# Altium footprint library Inductor_THT.PcbLib: 269 footprints (part 3 of 17)
Each footprint in its own frame and in the unit in brackets; x right, y up, seen from the top. Pads: shape width x height; smd on the part's side, far side on the other; paste and mask are expansions set on the pad; w line width, h text height; cw(c..) or ccw(c..) is an arc to the next point about the centre after c.
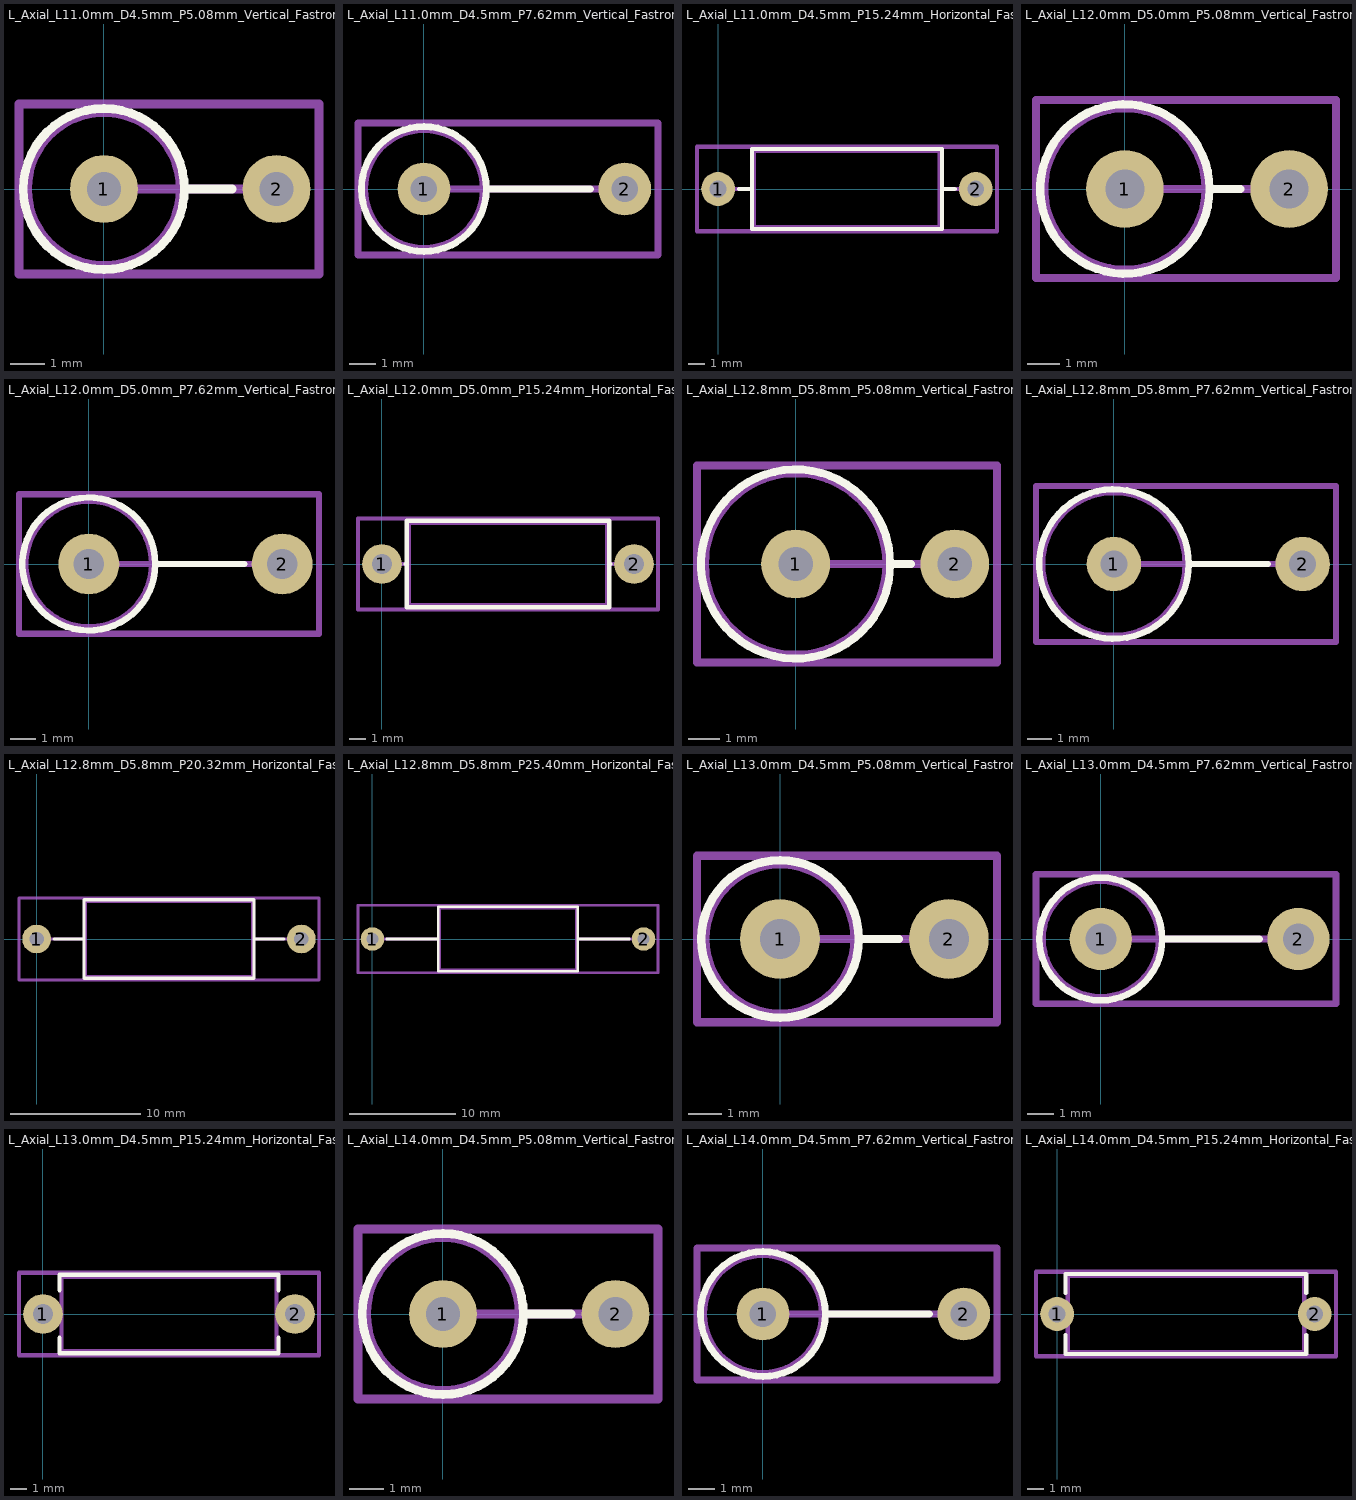
[diagram p2: the footprints below, top view; thin cyan lines are the x and y axes]

## L_Axial_L11.0mm_D4.5mm_P5.08mm_Vertical_Fastron_MECC [mm]
pads (2):
  round 2 hole 1: 1(0,0) 2(5.08,0)
F.SilkS:
  circle w0.254: c0,0 r2.37
  lines w0.254: 2.37,0 3.78,0
Top Assembly:
  circle w0.254: c0,0 r2.25
  lines w0.254: 0,0 5.08,0
  text "'.Designator'" at -1.507,2.53 h1
Top Courtyard:
  lines w0.254: -2.5,-2.5 6.33,-2.5 6.33,2.5 -2.5,2.5 -2.5,-2.5
Top Designator:
  text ".Designator" at -5.703,0.042 h1.52
3D body "L_Axial_L11.0mm_D4.5mm_P5.08mm_Vertical_Fastron_MECC.step": height 13.55, standoff -3, extent -2.25,-2.247 5.427,2.247

## L_Axial_L11.0mm_D4.5mm_P7.62mm_Vertical_Fastron_MECC [mm]
pads (2):
  round 2 hole 1: 1(0,0) 2(7.62,0)
F.SilkS:
  circle w0.254: c0,0 r2.37
  lines w0.254: 2.37,0 6.32,0
Top Assembly:
  circle w0.254: c0,0 r2.25
  lines w0.254: 0,0 7.62,0
  text "'.Designator'" at -0.237,2.53 h1
Top Courtyard:
  lines w0.254: -2.5,-2.5 8.88,-2.5 8.88,2.5 -2.5,2.5 -2.5,-2.5
Top Designator:
  text ".Designator" at -4.428,0.042 h1.52
3D body "L_Axial_L11.0mm_D4.5mm_P7.62mm_Vertical_Fastron_MECC.step": height 13.55, standoff -3, extent -2.25,-2.247 7.967,2.247

## L_Axial_L11.0mm_D4.5mm_P15.24mm_Horizontal_Fastron_MECC [mm]
pads (2):
  round 2 hole 1: 1(0,0) 2(15.24,0)
F.SilkS:
  lines w0.254: 1.24,0 2,0 ; 13.24,0 14,0 ; 2,-2.37 13.24,-2.37 13.24,2.37 2,2.37 2,-2.37
Top Assembly:
  lines w0.254: 0,0 2.12,0 ; 13.12,0 15.24,0 ; 2.12,-2.25 13.12,-2.25 13.12,2.25 2.12,2.25 2.12,-2.25
  text "'.Designator'" at 3.573,-0.84 h1
Top Courtyard:
  lines w0.254: -1.25,-2.5 16.5,-2.5 16.5,2.5 -1.25,2.5 -1.25,-2.5
Top Designator:
  text ".Designator" at 0.007,-0.508 h1.52
3D body "L_Axial_L11.0mm_D4.5mm_P15.24mm_Horizontal_Fastron_MECC.step": height 4.6, standoff -3, extent -0.347,-2.247 15.587,2.247

## L_Axial_L12.0mm_D5.0mm_P5.08mm_Vertical_Fastron_MISC [mm]
pads (2):
  round 2.4 hole 1.2: 1(0,0) 2(5.08,0)
F.SilkS:
  circle w0.254: c0,0 r2.62
  lines w0.254: 2.62,0 3.58,0
Top Assembly:
  circle w0.254: c0,0 r2.5
  lines w0.254: 0,0 5.08,0
  text "'.Designator'" at -1.507,2.78 h1
Top Courtyard:
  lines w0.254: -2.75,-2.75 6.53,-2.75 6.53,2.75 -2.75,2.75 -2.75,-2.75
Top Designator:
  text ".Designator" at -5.728,0.042 h1.52
3D body "L_Axial_L12.0mm_D5.0mm_P5.08mm_Vertical_Fastron_MISC.step": height 15.25, standoff -3, extent -2.5,-2.497 5.526,2.497

## L_Axial_L12.0mm_D5.0mm_P7.62mm_Vertical_Fastron_MISC [mm]
pads (2):
  round 2.4 hole 1.2: 1(0,0) 2(7.62,0)
F.SilkS:
  circle w0.254: c0,0 r2.62
  lines w0.254: 2.62,0 6.12,0
Top Assembly:
  circle w0.254: c0,0 r2.5
  lines w0.254: 0,0 7.62,0
  text "'.Designator'" at -0.237,2.78 h1
Top Courtyard:
  lines w0.254: -2.75,-2.75 9.07,-2.75 9.07,2.75 -2.75,2.75 -2.75,-2.75
Top Designator:
  text ".Designator" at -4.458,0.042 h1.52
3D body "L_Axial_L12.0mm_D5.0mm_P7.62mm_Vertical_Fastron_MISC.step": height 15.25, standoff -3, extent -2.5,-2.497 8.066,2.497

## L_Axial_L12.0mm_D5.0mm_P15.24mm_Horizontal_Fastron_MISC [mm]
pads (2):
  round 2.4 hole 1.2: 1(0,0) 2(15.24,0)
F.SilkS:
  lines w0.254: 1.44,0 1.5,0 ; 13.74,0 13.8,0 ; 1.5,-2.62 13.74,-2.62 13.74,2.62 1.5,2.62 1.5,-2.62
Top Assembly:
  lines w0.254: 0,0 1.62,0 ; 13.62,0 15.24,0 ; 1.62,-2.5 13.62,-2.5 13.62,2.5 1.62,2.5 1.62,-2.5
  text "'.Designator'" at 3.573,-0.84 h1
Top Courtyard:
  lines w0.254: -1.45,-2.75 16.69,-2.75 16.69,2.75 -1.45,2.75 -1.45,-2.75
Top Designator:
  text ".Designator" at 0.002,-0.508 h1.52
3D body "L_Axial_L12.0mm_D5.0mm_P15.24mm_Horizontal_Fastron_MISC.step": height 5.1, standoff -3, extent -0.446,-2.497 15.686,2.497

## L_Axial_L12.8mm_D5.8mm_P5.08mm_Vertical_Fastron_HBCC [mm]
pads (2):
  round 2.2 hole 1.1: 1(0,0) 2(5.08,0)
F.SilkS:
  circle w0.254: c0,0 r3.02
  lines w0.254: 3.02,0 3.68,0
Top Assembly:
  circle w0.254: c0,0 r2.9
  lines w0.254: 0,0 5.08,0
  text "'.Designator'" at -4.047,0.76 h1
Top Courtyard:
  lines w0.254: -3.15,-3.15 6.43,-3.15 6.43,3.15 -3.15,3.15 -3.15,-3.15
Top Designator:
  text ".Designator" at -6.437,-0.508 h1.52
3D body "L_Axial_L12.8mm_D5.8mm_P5.08mm_Vertical_Fastron_HBCC.step": height 15.7, standoff -3, extent -2.9,-2.897 5.477,2.897

## L_Axial_L12.8mm_D5.8mm_P7.62mm_Vertical_Fastron_HBCC [mm]
pads (2):
  round 2.2 hole 1.1: 1(0,0) 2(7.62,0)
F.SilkS:
  circle w0.254: c0,0 r3.02
  lines w0.254: 3.02,0 6.22,0
Top Assembly:
  circle w0.254: c0,0 r2.9
  lines w0.254: 0,0 7.62,0
  text "'.Designator'" at -4.047,0.76 h1
Top Courtyard:
  lines w0.254: -3.15,-3.15 8.97,-3.15 8.97,3.15 -3.15,3.15 -3.15,-3.15
Top Designator:
  text ".Designator" at -5.167,-0.508 h1.52
3D body "L_Axial_L12.8mm_D5.8mm_P7.62mm_Vertical_Fastron_HBCC.step": height 15.7, standoff -3, extent -2.9,-2.897 8.017,2.897

## L_Axial_L12.8mm_D5.8mm_P20.32mm_Horizontal_Fastron_HBCC [mm]
pads (2):
  round 2.2 hole 1.1: 1(0,0) 2(20.32,0)
F.SilkS:
  lines w0.254: 1.34,0 3.64,0 ; 16.68,0 18.98,0 ; 3.64,-3.02 16.68,-3.02 16.68,3.02 3.64,3.02 3.64,-3.02
Top Assembly:
  lines w0.254: 0,0 3.76,0 ; 16.56,0 20.32,0 ; 3.76,-2.9 16.56,-2.9 16.56,2.9 3.76,2.9 3.76,-2.9
  text "'.Designator'" at 6.113,-0.84 h1
Top Courtyard:
  lines w0.254: -1.35,-3.15 21.67,-3.15 21.67,3.15 -1.35,3.15 -1.35,-3.15
Top Designator:
  text ".Designator" at 2.542,-0.508 h1.52
3D body "L_Axial_L12.8mm_D5.8mm_P20.32mm_Horizontal_Fastron_HBCC.step": height 5.9, standoff -3, extent -0.397,-2.897 20.717,2.897

## L_Axial_L12.8mm_D5.8mm_P25.40mm_Horizontal_Fastron_HBCC [mm]
pads (2):
  round 2.2 hole 1.1: 1(0,0) 2(25.4,0)
F.SilkS:
  lines w0.254: 1.34,0 6.18,0 ; 19.22,0 24.06,0 ; 6.18,-3.02 19.22,-3.02 19.22,3.02 6.18,3.02 6.18,-3.02
Top Assembly:
  lines w0.254: 0,0 6.3,0 ; 19.1,0 25.4,0 ; 6.3,-2.9 19.1,-2.9 19.1,2.9 6.3,2.9 6.3,-2.9
  text "'.Designator'" at 8.653,-0.84 h1
Top Courtyard:
  lines w0.254: -1.35,-3.15 26.75,-3.15 26.75,3.15 -1.35,3.15 -1.35,-3.15
Top Designator:
  text ".Designator" at 5.082,-0.508 h1.52
3D body "L_Axial_L12.8mm_D5.8mm_P25.40mm_Horizontal_Fastron_HBCC.step": height 5.9, standoff -3, extent -0.397,-2.9 25.797,2.9

## L_Axial_L13.0mm_D4.5mm_P5.08mm_Vertical_Fastron_HCCC [mm]
pads (2):
  round 2.4 hole 1.2: 1(0,0) 2(5.08,0)
F.SilkS:
  circle w0.254: c0,0 r2.37
  lines w0.254: 2.37,0 3.58,0
Top Assembly:
  circle w0.254: c0,0 r2.25
  lines w0.254: 0,0 5.08,0
  text "'.Designator'" at -1.507,2.53 h1
Top Courtyard:
  lines w0.254: -2.5,-2.5 6.53,-2.5 6.53,2.5 -2.5,2.5 -2.5,-2.5
Top Designator:
  text ".Designator" at -5.603,0.042 h1.52
3D body "L_Axial_L13.0mm_D4.5mm_P5.08mm_Vertical_Fastron_HCCC.step": height 16.25, standoff -3, extent -2.25,-2.247 5.526,2.247

## L_Axial_L13.0mm_D4.5mm_P7.62mm_Vertical_Fastron_HCCC [mm]
pads (2):
  round 2.4 hole 1.2: 1(0,0) 2(7.62,0)
F.SilkS:
  circle w0.254: c0,0 r2.37
  lines w0.254: 2.37,0 6.12,0
Top Assembly:
  circle w0.254: c0,0 r2.25
  lines w0.254: 0,0 7.62,0
  text "'.Designator'" at -0.237,2.53 h1
Top Courtyard:
  lines w0.254: -2.5,-2.5 9.07,-2.5 9.07,2.5 -2.5,2.5 -2.5,-2.5
Top Designator:
  text ".Designator" at -4.333,0.042 h1.52
3D body "L_Axial_L13.0mm_D4.5mm_P7.62mm_Vertical_Fastron_HCCC.step": height 16.25, standoff -3, extent -2.25,-2.247 8.066,2.247

## L_Axial_L13.0mm_D4.5mm_P15.24mm_Horizontal_Fastron_HCCC [mm]
pads (2):
  round 2.4 hole 1.2: 1(0,0) 2(15.24,0)
F.SilkS:
  lines w0.254: 1,-1.44 1,-2.37 14.24,-2.37 14.24,-1.44 ; 1,1.44 1,2.37 14.24,2.37 14.24,1.44
Top Assembly:
  lines w0.254: 0,0 1.12,0 ; 14.12,0 15.24,0 ; 1.12,-2.25 14.12,-2.25 14.12,2.25 1.12,2.25 1.12,-2.25
  text "'.Designator'" at 3.573,-0.84 h1
Top Courtyard:
  lines w0.254: -1.45,-2.5 16.69,-2.5 16.69,2.5 -1.45,2.5 -1.45,-2.5
Top Designator:
  text ".Designator" at 0.002,-0.508 h1.52
3D body "L_Axial_L13.0mm_D4.5mm_P15.24mm_Horizontal_Fastron_HCCC.step": height 4.6, standoff -3, extent -0.446,-2.247 15.686,2.247

## L_Axial_L14.0mm_D4.5mm_P5.08mm_Vertical_Fastron_LACC [mm]
pads (2):
  round 2 hole 1: 1(0,0) 2(5.08,0)
F.SilkS:
  circle w0.254: c0,0 r2.37
  lines w0.254: 2.37,0 3.78,0
Top Assembly:
  circle w0.254: c0,0 r2.25
  lines w0.254: 0,0 5.08,0
  text "'.Designator'" at -1.507,2.53 h1
Top Courtyard:
  lines w0.254: -2.5,-2.5 6.33,-2.5 6.33,2.5 -2.5,2.5 -2.5,-2.5
Top Designator:
  text ".Designator" at -5.703,0.042 h1.52
3D body "L_Axial_L14.0mm_D4.5mm_P5.08mm_Vertical_Fastron_LACC.step": height 16.55, standoff -3, extent -2.25,-2.247 5.427,2.247

## L_Axial_L14.0mm_D4.5mm_P7.62mm_Vertical_Fastron_LACC [mm]
pads (2):
  round 2 hole 1: 1(0,0) 2(7.62,0)
F.SilkS:
  circle w0.254: c0,0 r2.37
  lines w0.254: 2.37,0 6.32,0
Top Assembly:
  circle w0.254: c0,0 r2.25
  lines w0.254: 0,0 7.62,0
  text "'.Designator'" at -0.237,2.53 h1
Top Courtyard:
  lines w0.254: -2.5,-2.5 8.88,-2.5 8.88,2.5 -2.5,2.5 -2.5,-2.5
Top Designator:
  text ".Designator" at -4.428,0.042 h1.52
3D body "L_Axial_L14.0mm_D4.5mm_P7.62mm_Vertical_Fastron_LACC.step": height 16.55, standoff -3, extent -2.25,-2.247 7.967,2.247

## L_Axial_L14.0mm_D4.5mm_P15.24mm_Horizontal_Fastron_LACC [mm]
pads (2):
  round 2 hole 1: 1(0,0) 2(15.24,0)
F.SilkS:
  lines w0.254: 0.5,-1.24 0.5,-2.37 14.74,-2.37 14.74,-1.24 ; 0.5,1.24 0.5,2.37 14.74,2.37 14.74,1.24
Top Assembly:
  lines w0.254: 0,0 0.62,0 ; 14.62,0 15.24,0 ; 0.62,-2.25 14.62,-2.25 14.62,2.25 0.62,2.25 0.62,-2.25
  text "'.Designator'" at 3.573,-0.84 h1
Top Courtyard:
  lines w0.254: -1.25,-2.5 16.5,-2.5 16.5,2.5 -1.25,2.5 -1.25,-2.5
Top Designator:
  text ".Designator" at 0.007,-0.508 h1.52
3D body "L_Axial_L14.0mm_D4.5mm_P15.24mm_Horizontal_Fastron_LACC.step": height 4.6, standoff -3, extent -0.347,-2.247 15.587,2.247